# EAGLE library part MICROCHIP-(2)_CDNBS08-SRDA (library RVschwarzenegger_Controller_RevA)
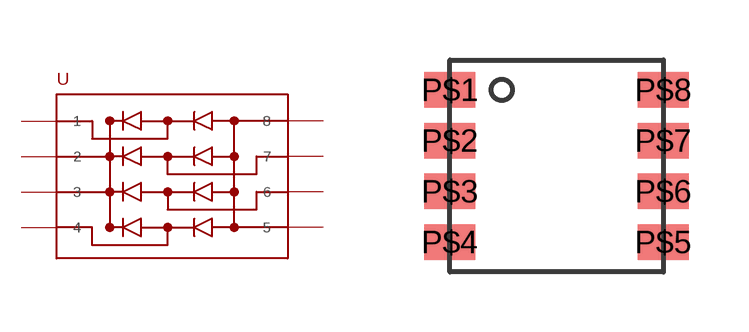
[diagram p4: symbol with the pads of MICROCHIP-(2)_SOIC8_NARROW; footprint MICROCHIP-(2)_SOIC8_NARROW]

Designator prefix U

## MICROCHIP-(2)_CDNBS08-SRDA  [MICROCHIP-(2)_SOIC8_NARROW]
P$1  1
P$2  2
P$3  3
P$4  4
P$5  5
P$6  6
P$7  7
P$8  8

## Footprint MICROCHIP-(2)_SOIC8_NARROW (pad centres in mm)
smd 1.27 x 0.889: P$1 0,0; P$2 0,-1.27; P$3 0,-2.54; P$4 0,-3.81; P$5 5.334,-3.81; P$6 5.334,-2.54; P$7 5.334,-1.27; P$8 5.334,0